# Altium schematic symbol library kmilo17pet-LT_OpAmp_LT2000.SchLib: 1710 symbols (part 24 of 75)
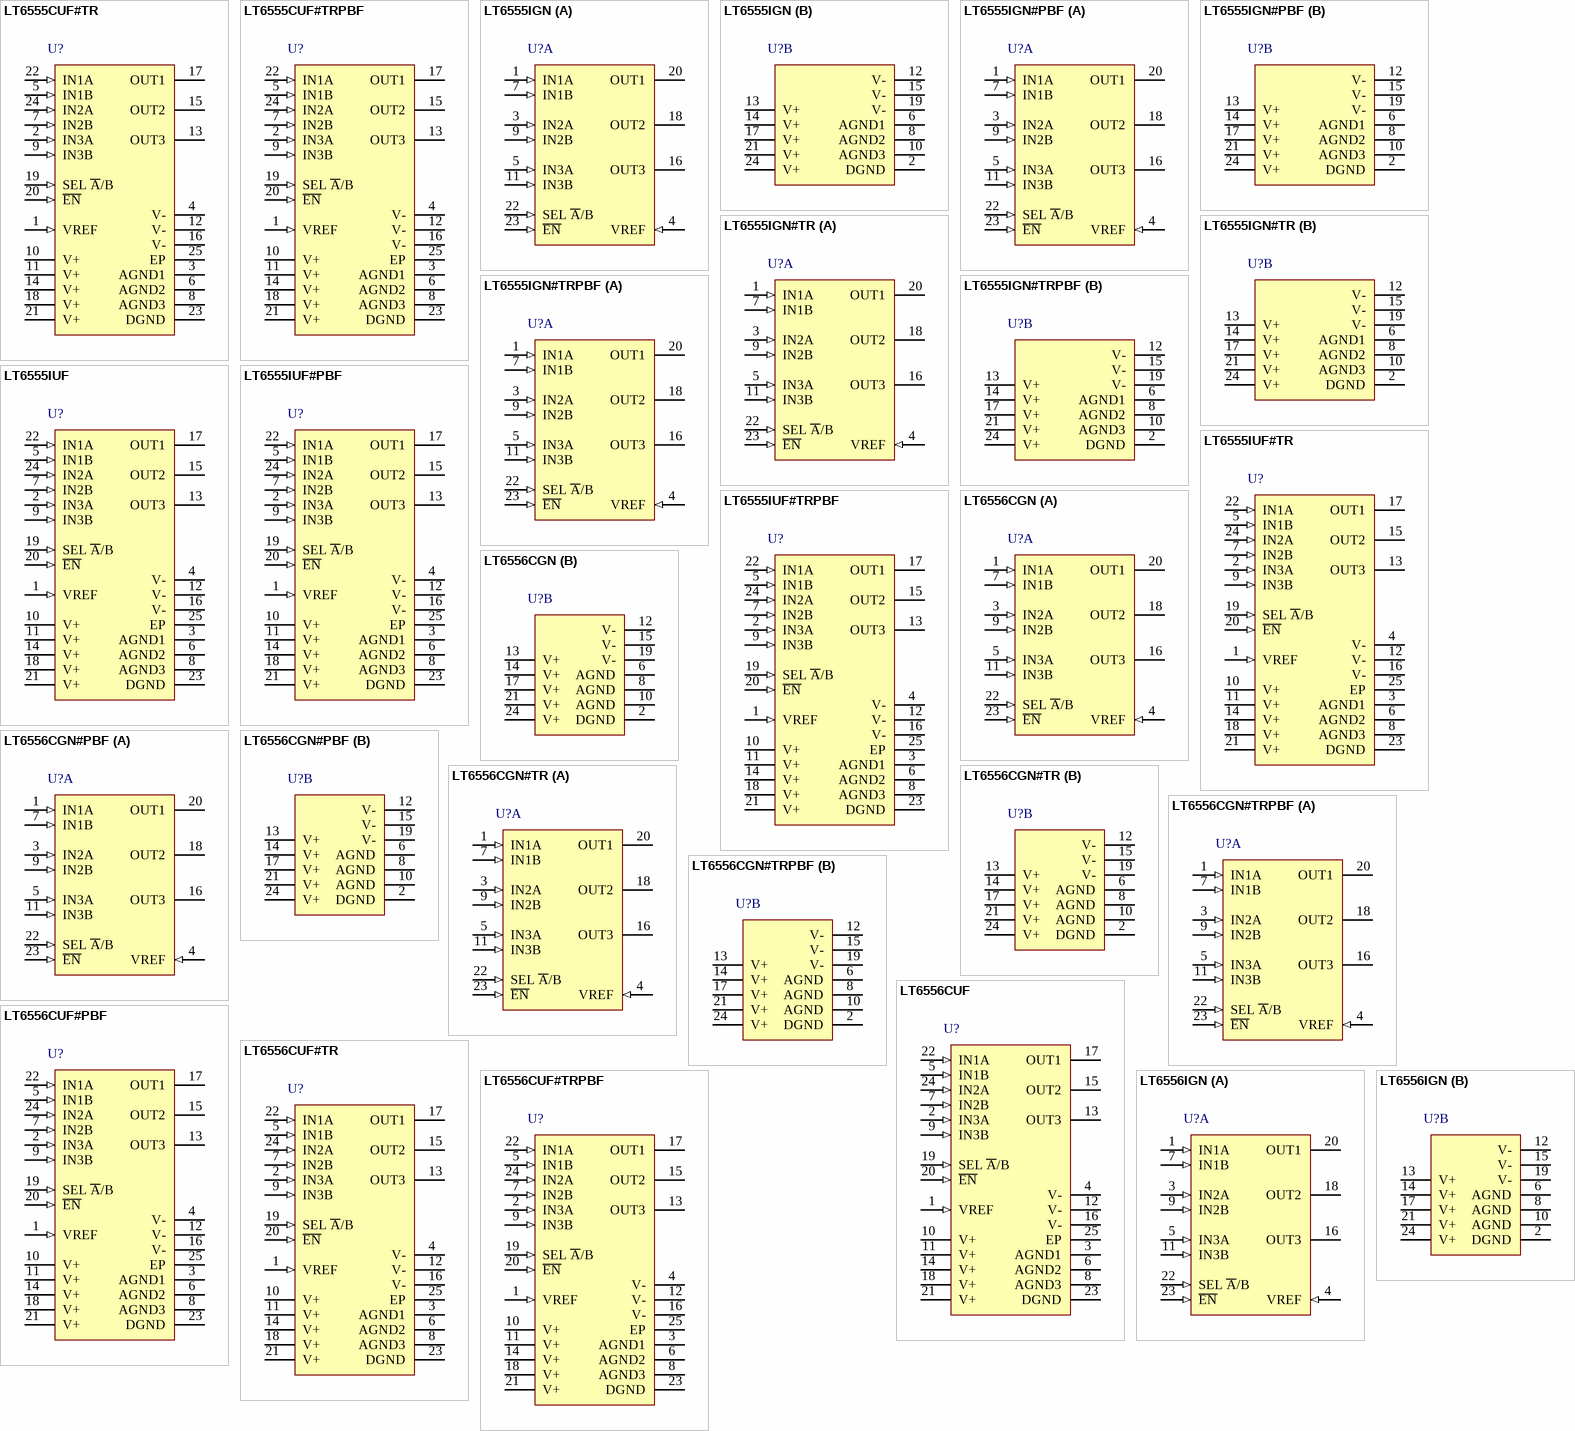
[diagram p103: symbols LT6555CUF#TR to LT6556IGN]

## LT6555CUF#TRPBF
designator U?
3 Channel, 2:1 Video Multiplexer, Av = 2, 650 MHz Typical GBW, 2200 V/us Typical SR, 4.5 to 12.6 V, 24-Pin QFN (UF24), Commercial, Pb-Free, Reel; Linear Technology Part Number: LT6555; Manufacturer: Linear Technology; PartNumber: LT6555CUF#TRPBF; Channels (#): 3; GBW (MHz) Typical: 650; Is (mA) Typical: 9; SR (V/us) Typical: 2200; Vos (mV) Typical: 5; Vs Max (V): 12.6; Vs Min (V): 4.5; PackageVersion: Rev B; PackageReference: LT-UF-24; PackageDescription: 24-Lead Plastic QFN, Body 4 x 4 mm, Pitch 0.5 mm; Supplier 1: Digi-Key; Supplier Part Number 1: LT6555CUF#TRPBF-ND; Packing: Reel; RoHS: Pb-Free; Type: VIDEO; Mounting Technology: Surface Mount; Code_JEDEC: MO-220; ComponentLink1Description: Manufacturer URL; ComponentLink1URL: http://www.linear.com/; ComponentLink2Description: Datasheet; ComponentLink2URL: http://cds.linear.com/docs/en/datasheet/6555f.pdf; ComponentLink3Description: Package Specification; ComponentLink3URL: http://cds.linear.com/docs/en/packaging/%28UF24%29%20QFN%2005-08-1697%20Rev%20B.pdf
footprint LT-UF-24_N (QFN, 24-Leads, Body 4x4mm, Pitch 0.5mm, Thermal Pad 2.45x2.45mm, IPC Medium Density)
footprint LT-UF-24_L (QFN, 24-Leads, Body 4x4mm, Pitch 0.5mm, Thermal Pad 2.45x2.45mm, IPC High Density)
footprint LT-UF-24_M (QFN, 24-Leads, Body 4x4mm, Pitch 0.5mm, Thermal Pad 2.45x2.45mm, IPC Low Density)
pins: 1 VREF (in), 2 IN3A (in), 3 AGND1 (power), 4 V- (power), 5 IN1B (in), 6 AGND2 (power), 7 IN2B (in), 8 AGND3 (power), 9 IN3B (in), 10 V+ (power), 11 V+ (power), 12 V- (power), 13 OUT3 (hiz), 14 V+ (power), 15 OUT2 (hiz), 16 V- (power), 17 OUT1 (hiz), 18 V+ (power), 19 SEL ~{A}/B (in), 20 ~{EN} (in), 21 V+ (power), 22 IN1A (in), 23 DGND (power), 24 IN2A (in), 25 EP (power)

## LT6555IGN
designator U?
3 Channel, 2:1 Video Multiplexer, Av = 2, 650 MHz Typical GBW, 2200 V/us Typical SR, 4.5 to 12.6 V, 24-Pin SOP (GN24), Industrial; Linear Technology Part Number: LT6555; Manufacturer: Linear Technology; PartNumber: LT6555IGN; Channels (#): 3; GBW (MHz) Typical: 650; Is (mA) Typical: 9; SR (V/us) Typical: 2200; Vos (mV) Typical: 5; Vs Max (V): 12.6; Vs Min (V): 4.5; PackageVersion: Rev B; PackageReference: LT-GN-24; PackageDescription: 24-Lead Plastic SSOP , Body 8.5 x 3.9 mm, Pitch 0.635 mm; Type: VIDEO; Mounting Technology: Surface Mount; ComponentLink1Description: Manufacturer URL; ComponentLink1URL: http://www.linear.com/; ComponentLink2Description: Datasheet; ComponentLink2URL: http://cds.linear.com/docs/en/datasheet/6555f.pdf; ComponentLink3Description: Package Specification; ComponentLink3URL: http://cds.linear.com/docs/en/packaging/05081641_B_GN24.pdf
footprint LT-GN-24_N (SOP, 24-Leads, Body 8.65x3.90mm, Pitch 0.635mm, , IPC Medium Density)
footprint LT-GN-24_L (SOP, 24-Leads, Body 8.65x3.90mm, Pitch 0.635mm, IPC High Density)
footprint LT-GN-24_M (SOP, 24-Leads, Body 8.65x3.90mm, Pitch 0.635mm, IPC Low Density)
part A pins: 1 IN1A (in) "Channel 1 Input A. This pin has a nominal impedance of 400k ohm and does not have any internal termination resistor.", 3 IN2A (in) "Channel 2 Input A. This pin has a nominal impedance of 400k ohm and does not have any internal termination resistor.", 4 VREF (in) "Voltage Reference for Input Clamping. This is the tap to an internal voltage divider that defines midsupply. It is normally connected to ground in dual supply, DC coupled applications.", 5 IN3A (in) "Channel 3 Input A. This pin has a nominal impedance of 400k ohm and does not have any internal termination resistor.", 7 IN1B (in) "Channel 1 Input B. This pin has a nominal impedance of 400k ohm and does not have any internal termination resistor.", 9 IN2B (in) "Channel 2 Input B. This pin has a nominal impedance of 400k ohm and does not have any internal termination resistor.", 11 IN3B (in) "Channel 3 Input B. This pin has a nominal impedance of 400k ohm and does not have any internal termination resistor.", 16 OUT3 (hiz) "Channel 3 Output. It is twice the selected channel 3 input and performs optimally with a 150ohm load (a double terminated 75ohm cable).", 18 OUT2 (hiz) "Channel 2 Output. It is twice the selected channel 2 input and performs optimally with a 150ohm load (a double terminated 75ohm cable).", 20 OUT1 (hiz) "Channel 1 Output. It is twice the selected channel 1 input and performs optimally with a 150ohm load (a double terminated 75ohm cable).", 22 SEL ~{A}/B (in) "Select Pin. This high impedance pin selects which set of inputs are sent to the output pins. When the pin is pulled low, the A inputs are selected. When the pin is pulled high, the B inputs are selected.", 23 ~{EN} (in) "Enable Control Pin. An internal pull-up resistor of 46k defines the pin’s impedance and will turn the part off if the pin is unconnected. When the pin is pulled low, the amplifiers are enabled."
part B pins: 2 DGND (power) "Digital Ground Reference for Enable Pin. This pin is normally connected to ground.", 6 AGND1 (power) "Analog Ground for the 360ohm Gain Resistor of Channel 1.", 8 AGND2 (power) "Analog Ground for the 360ohm Gain Resistor of Channel 2.", 10 AGND3 (power) "Analog Ground for the 360ohm Gain Resistor of Channel 3.", 12 V- (power) "Negative Supply Voltage. V- pins are not internally connected to each other and must all be connected externally. Proper supply bypassing is necessary for best performance. See the Applications Information section.", 13 V+ (power) "Positive Supply Voltage. V+ pins are not internally connected to each other and must all be connected externally. Proper supply bypassing is necessary for best performance. See the Applications Information section.", 14 V+ (power) "Positive Supply Voltage. V+ pins are not internally connected to each other and must all be connected externally. Proper supply bypassing is necessary for best performance. See the Applications Information section.", 15 V- (power) "Negative Supply Voltage for Channel 3 Output Stage. V- pins are not internally connected to each other and must all be connected externally. Proper supply bypassing is necessary for best performance. See the Applications (See Datasheet)", 17 V+ (power) "Positive Supply Voltage for Channels 2 and 3 Output Stages. V+ pins are not internally connected to each other and must all be connected externally. Proper supply bypassing is necessary for best performance. See the (See Datasheet)", 19 V- (power) "Negative Supply Voltage for Channels 1 and 2 Output Stages. V- pins are not internally connected to each other and must all be connected externally. Proper supply bypassing is necessary for best performance. See the (See Datasheet)", 21 V+ (power) "Positive Supply Voltage for Channel 1 Output Stage. V+ pins are not internally connected to each other and must all be connected externally. Proper supply bypassing is necessary for best performance. See the Applications (See Datasheet)", 24 V+ (power) "Positive Supply Voltage. V+ pins are not internally connected to each other and must all be connected externally. Proper supply bypassing is necessary for best performance. See the Applications Information section."

## LT6555IGN#PBF
designator U?
3 Channel, 2:1 Video Multiplexer, Av = 2, 650 MHz Typical GBW, 2200 V/us Typical SR, 4.5 to 12.6 V, 24-Pin SOP (GN24), Industrial, Pb-Free; Linear Technology Part Number: LT6555; Manufacturer: Linear Technology; PartNumber: LT6555IGN#PBF; Channels (#): 3; GBW (MHz) Typical: 650; Is (mA) Typical: 9; SR (V/us) Typical: 2200; Vos (mV) Typical: 5; Vs Max (V): 12.6; Vs Min (V): 4.5; PackageVersion: Rev B; PackageReference: LT-GN-24; PackageDescription: 24-Lead Plastic SSOP , Body 8.5 x 3.9 mm, Pitch 0.635 mm; Supplier 1: Digi-Key; Supplier Part Number 1: LT6555IGN#PBF-ND; Supplier 2: Farnell; Supplier Part Number 2: 1556495; Supplier 3: Newark; Supplier Part Number 3: 57M9496; RoHS: Pb-Free; Type: VIDEO; Mounting Technology: Surface Mount; ComponentLink1Description: Manufacturer URL; ComponentLink1URL: http://www.linear.com/; ComponentLink2Description: Datasheet; ComponentLink2URL: http://cds.linear.com/docs/en/datasheet/6555f.pdf; ComponentLink3Description: Package Specification; ComponentLink3URL: http://cds.linear.com/docs/en/packaging/05081641_B_GN24.pdf
footprint LT-GN-24_N (SOP, 24-Leads, Body 8.65x3.90mm, Pitch 0.635mm, , IPC Medium Density)
footprint LT-GN-24_L (SOP, 24-Leads, Body 8.65x3.90mm, Pitch 0.635mm, IPC High Density)
footprint LT-GN-24_M (SOP, 24-Leads, Body 8.65x3.90mm, Pitch 0.635mm, IPC Low Density)
part A pins: 1 IN1A (in) "Channel 1 Input A. This pin has a nominal impedance of 400k ohm and does not have any internal termination resistor.", 3 IN2A (in) "Channel 2 Input A. This pin has a nominal impedance of 400k ohm and does not have any internal termination resistor.", 4 VREF (in) "Voltage Reference for Input Clamping. This is the tap to an internal voltage divider that defines midsupply. It is normally connected to ground in dual supply, DC coupled applications.", 5 IN3A (in) "Channel 3 Input A. This pin has a nominal impedance of 400k ohm and does not have any internal termination resistor.", 7 IN1B (in) "Channel 1 Input B. This pin has a nominal impedance of 400k ohm and does not have any internal termination resistor.", 9 IN2B (in) "Channel 2 Input B. This pin has a nominal impedance of 400k ohm and does not have any internal termination resistor.", 11 IN3B (in) "Channel 3 Input B. This pin has a nominal impedance of 400k ohm and does not have any internal termination resistor.", 16 OUT3 (hiz) "Channel 3 Output. It is twice the selected channel 3 input and performs optimally with a 150ohm load (a double terminated 75ohm cable).", 18 OUT2 (hiz) "Channel 2 Output. It is twice the selected channel 2 input and performs optimally with a 150ohm load (a double terminated 75ohm cable).", 20 OUT1 (hiz) "Channel 1 Output. It is twice the selected channel 1 input and performs optimally with a 150ohm load (a double terminated 75ohm cable).", 22 SEL ~{A}/B (in) "Select Pin. This high impedance pin selects which set of inputs are sent to the output pins. When the pin is pulled low, the A inputs are selected. When the pin is pulled high, the B inputs are selected.", 23 ~{EN} (in) "Enable Control Pin. An internal pull-up resistor of 46k defines the pin’s impedance and will turn the part off if the pin is unconnected. When the pin is pulled low, the amplifiers are enabled."
part B pins: 2 DGND (power) "Digital Ground Reference for Enable Pin. This pin is normally connected to ground.", 6 AGND1 (power) "Analog Ground for the 360ohm Gain Resistor of Channel 1.", 8 AGND2 (power) "Analog Ground for the 360ohm Gain Resistor of Channel 2.", 10 AGND3 (power) "Analog Ground for the 360ohm Gain Resistor of Channel 3.", 12 V- (power) "Negative Supply Voltage. V- pins are not internally connected to each other and must all be connected externally. Proper supply bypassing is necessary for best performance. See the Applications Information section.", 13 V+ (power) "Positive Supply Voltage. V+ pins are not internally connected to each other and must all be connected externally. Proper supply bypassing is necessary for best performance. See the Applications Information section.", 14 V+ (power) "Positive Supply Voltage. V+ pins are not internally connected to each other and must all be connected externally. Proper supply bypassing is necessary for best performance. See the Applications Information section.", 15 V- (power) "Negative Supply Voltage for Channel 3 Output Stage. V- pins are not internally connected to each other and must all be connected externally. Proper supply bypassing is necessary for best performance. See the Applications (See Datasheet)", 17 V+ (power) "Positive Supply Voltage for Channels 2 and 3 Output Stages. V+ pins are not internally connected to each other and must all be connected externally. Proper supply bypassing is necessary for best performance. See the (See Datasheet)", 19 V- (power) "Negative Supply Voltage for Channels 1 and 2 Output Stages. V- pins are not internally connected to each other and must all be connected externally. Proper supply bypassing is necessary for best performance. See the (See Datasheet)", 21 V+ (power) "Positive Supply Voltage for Channel 1 Output Stage. V+ pins are not internally connected to each other and must all be connected externally. Proper supply bypassing is necessary for best performance. See the Applications (See Datasheet)", 24 V+ (power) "Positive Supply Voltage. V+ pins are not internally connected to each other and must all be connected externally. Proper supply bypassing is necessary for best performance. See the Applications Information section."

## LT6555IGN#TR
designator U?
3 Channel, 2:1 Video Multiplexer, Av = 2, 650 MHz Typical GBW, 2200 V/us Typical SR, 4.5 to 12.6 V, 24-Pin SOP (GN24), Industrial, Reel; Linear Technology Part Number: LT6555; Manufacturer: Linear Technology; PartNumber: LT6555IGN#TR; Channels (#): 3; GBW (MHz) Typical: 650; Is (mA) Typical: 9; SR (V/us) Typical: 2200; Vos (mV) Typical: 5; Vs Max (V): 12.6; Vs Min (V): 4.5; PackageVersion: Rev B; PackageReference: LT-GN-24; PackageDescription: 24-Lead Plastic SSOP , Body 8.5 x 3.9 mm, Pitch 0.635 mm; Packing: Reel; Type: VIDEO; Mounting Technology: Surface Mount; ComponentLink1Description: Manufacturer URL; ComponentLink1URL: http://www.linear.com/; ComponentLink2Description: Datasheet; ComponentLink2URL: http://cds.linear.com/docs/en/datasheet/6555f.pdf; ComponentLink3Description: Package Specification; ComponentLink3URL: http://cds.linear.com/docs/en/packaging/05081641_B_GN24.pdf
footprint LT-GN-24_N (SOP, 24-Leads, Body 8.65x3.90mm, Pitch 0.635mm, , IPC Medium Density)
footprint LT-GN-24_L (SOP, 24-Leads, Body 8.65x3.90mm, Pitch 0.635mm, IPC High Density)
footprint LT-GN-24_M (SOP, 24-Leads, Body 8.65x3.90mm, Pitch 0.635mm, IPC Low Density)
part A pins: 1 IN1A (in) "Channel 1 Input A. This pin has a nominal impedance of 400k ohm and does not have any internal termination resistor.", 3 IN2A (in) "Channel 2 Input A. This pin has a nominal impedance of 400k ohm and does not have any internal termination resistor.", 4 VREF (in) "Voltage Reference for Input Clamping. This is the tap to an internal voltage divider that defines midsupply. It is normally connected to ground in dual supply, DC coupled applications.", 5 IN3A (in) "Channel 3 Input A. This pin has a nominal impedance of 400k ohm and does not have any internal termination resistor.", 7 IN1B (in) "Channel 1 Input B. This pin has a nominal impedance of 400k ohm and does not have any internal termination resistor.", 9 IN2B (in) "Channel 2 Input B. This pin has a nominal impedance of 400k ohm and does not have any internal termination resistor.", 11 IN3B (in) "Channel 3 Input B. This pin has a nominal impedance of 400k ohm and does not have any internal termination resistor.", 16 OUT3 (hiz) "Channel 3 Output. It is twice the selected channel 3 input and performs optimally with a 150ohm load (a double terminated 75ohm cable).", 18 OUT2 (hiz) "Channel 2 Output. It is twice the selected channel 2 input and performs optimally with a 150ohm load (a double terminated 75ohm cable).", 20 OUT1 (hiz) "Channel 1 Output. It is twice the selected channel 1 input and performs optimally with a 150ohm load (a double terminated 75ohm cable).", 22 SEL ~{A}/B (in) "Select Pin. This high impedance pin selects which set of inputs are sent to the output pins. When the pin is pulled low, the A inputs are selected. When the pin is pulled high, the B inputs are selected.", 23 ~{EN} (in) "Enable Control Pin. An internal pull-up resistor of 46k defines the pin’s impedance and will turn the part off if the pin is unconnected. When the pin is pulled low, the amplifiers are enabled."
part B pins: 2 DGND (power) "Digital Ground Reference for Enable Pin. This pin is normally connected to ground.", 6 AGND1 (power) "Analog Ground for the 360ohm Gain Resistor of Channel 1.", 8 AGND2 (power) "Analog Ground for the 360ohm Gain Resistor of Channel 2.", 10 AGND3 (power) "Analog Ground for the 360ohm Gain Resistor of Channel 3.", 12 V- (power) "Negative Supply Voltage. V- pins are not internally connected to each other and must all be connected externally. Proper supply bypassing is necessary for best performance. See the Applications Information section.", 13 V+ (power) "Positive Supply Voltage. V+ pins are not internally connected to each other and must all be connected externally. Proper supply bypassing is necessary for best performance. See the Applications Information section.", 14 V+ (power) "Positive Supply Voltage. V+ pins are not internally connected to each other and must all be connected externally. Proper supply bypassing is necessary for best performance. See the Applications Information section.", 15 V- (power) "Negative Supply Voltage for Channel 3 Output Stage. V- pins are not internally connected to each other and must all be connected externally. Proper supply bypassing is necessary for best performance. See the Applications (See Datasheet)", 17 V+ (power) "Positive Supply Voltage for Channels 2 and 3 Output Stages. V+ pins are not internally connected to each other and must all be connected externally. Proper supply bypassing is necessary for best performance. See the (See Datasheet)", 19 V- (power) "Negative Supply Voltage for Channels 1 and 2 Output Stages. V- pins are not internally connected to each other and must all be connected externally. Proper supply bypassing is necessary for best performance. See the (See Datasheet)", 21 V+ (power) "Positive Supply Voltage for Channel 1 Output Stage. V+ pins are not internally connected to each other and must all be connected externally. Proper supply bypassing is necessary for best performance. See the Applications (See Datasheet)", 24 V+ (power) "Positive Supply Voltage. V+ pins are not internally connected to each other and must all be connected externally. Proper supply bypassing is necessary for best performance. See the Applications Information section."

## LT6555IGN#TRPBF
designator U?
3 Channel, 2:1 Video Multiplexer, Av = 2, 650 MHz Typical GBW, 2200 V/us Typical SR, 4.5 to 12.6 V, 24-Pin SOP (GN24), Industrial, Pb-Free, Reel; Linear Technology Part Number: LT6555; Manufacturer: Linear Technology; PartNumber: LT6555IGN#TRPBF; Channels (#): 3; GBW (MHz) Typical: 650; Is (mA) Typical: 9; SR (V/us) Typical: 2200; Vos (mV) Typical: 5; Vs Max (V): 12.6; Vs Min (V): 4.5; PackageVersion: Rev B; PackageReference: LT-GN-24; PackageDescription: 24-Lead Plastic SSOP , Body 8.5 x 3.9 mm, Pitch 0.635 mm; Supplier 1: Digi-Key; Supplier Part Number 1: LT6555IGN#TRPBF-ND; Packing: Reel; RoHS: Pb-Free; Type: VIDEO; Mounting Technology: Surface Mount; ComponentLink1Description: Manufacturer URL; ComponentLink1URL: http://www.linear.com/; ComponentLink2Description: Datasheet; ComponentLink2URL: http://cds.linear.com/docs/en/datasheet/6555f.pdf; ComponentLink3Description: Package Specification; ComponentLink3URL: http://cds.linear.com/docs/en/packaging/05081641_B_GN24.pdf
footprint LT-GN-24_N (SOP, 24-Leads, Body 8.65x3.90mm, Pitch 0.635mm, , IPC Medium Density)
footprint LT-GN-24_L (SOP, 24-Leads, Body 8.65x3.90mm, Pitch 0.635mm, IPC High Density)
footprint LT-GN-24_M (SOP, 24-Leads, Body 8.65x3.90mm, Pitch 0.635mm, IPC Low Density)
part A pins: 1 IN1A (in) "Channel 1 Input A. This pin has a nominal impedance of 400k ohm and does not have any internal termination resistor.", 3 IN2A (in) "Channel 2 Input A. This pin has a nominal impedance of 400k ohm and does not have any internal termination resistor.", 4 VREF (in) "Voltage Reference for Input Clamping. This is the tap to an internal voltage divider that defines midsupply. It is normally connected to ground in dual supply, DC coupled applications.", 5 IN3A (in) "Channel 3 Input A. This pin has a nominal impedance of 400k ohm and does not have any internal termination resistor.", 7 IN1B (in) "Channel 1 Input B. This pin has a nominal impedance of 400k ohm and does not have any internal termination resistor.", 9 IN2B (in) "Channel 2 Input B. This pin has a nominal impedance of 400k ohm and does not have any internal termination resistor.", 11 IN3B (in) "Channel 3 Input B. This pin has a nominal impedance of 400k ohm and does not have any internal termination resistor.", 16 OUT3 (hiz) "Channel 3 Output. It is twice the selected channel 3 input and performs optimally with a 150ohm load (a double terminated 75ohm cable).", 18 OUT2 (hiz) "Channel 2 Output. It is twice the selected channel 2 input and performs optimally with a 150ohm load (a double terminated 75ohm cable).", 20 OUT1 (hiz) "Channel 1 Output. It is twice the selected channel 1 input and performs optimally with a 150ohm load (a double terminated 75ohm cable).", 22 SEL ~{A}/B (in) "Select Pin. This high impedance pin selects which set of inputs are sent to the output pins. When the pin is pulled low, the A inputs are selected. When the pin is pulled high, the B inputs are selected.", 23 ~{EN} (in) "Enable Control Pin. An internal pull-up resistor of 46k defines the pin’s impedance and will turn the part off if the pin is unconnected. When the pin is pulled low, the amplifiers are enabled."
part B pins: 2 DGND (power) "Digital Ground Reference for Enable Pin. This pin is normally connected to ground.", 6 AGND1 (power) "Analog Ground for the 360ohm Gain Resistor of Channel 1.", 8 AGND2 (power) "Analog Ground for the 360ohm Gain Resistor of Channel 2.", 10 AGND3 (power) "Analog Ground for the 360ohm Gain Resistor of Channel 3.", 12 V- (power) "Negative Supply Voltage. V- pins are not internally connected to each other and must all be connected externally. Proper supply bypassing is necessary for best performance. See the Applications Information section.", 13 V+ (power) "Positive Supply Voltage. V+ pins are not internally connected to each other and must all be connected externally. Proper supply bypassing is necessary for best performance. See the Applications Information section.", 14 V+ (power) "Positive Supply Voltage. V+ pins are not internally connected to each other and must all be connected externally. Proper supply bypassing is necessary for best performance. See the Applications Information section.", 15 V- (power) "Negative Supply Voltage for Channel 3 Output Stage. V- pins are not internally connected to each other and must all be connected externally. Proper supply bypassing is necessary for best performance. See the Applications (See Datasheet)", 17 V+ (power) "Positive Supply Voltage for Channels 2 and 3 Output Stages. V+ pins are not internally connected to each other and must all be connected externally. Proper supply bypassing is necessary for best performance. See the (See Datasheet)", 19 V- (power) "Negative Supply Voltage for Channels 1 and 2 Output Stages. V- pins are not internally connected to each other and must all be connected externally. Proper supply bypassing is necessary for best performance. See the (See Datasheet)", 21 V+ (power) "Positive Supply Voltage for Channel 1 Output Stage. V+ pins are not internally connected to each other and must all be connected externally. Proper supply bypassing is necessary for best performance. See the Applications (See Datasheet)", 24 V+ (power) "Positive Supply Voltage. V+ pins are not internally connected to each other and must all be connected externally. Proper supply bypassing is necessary for best performance. See the Applications Information section."

## LT6555IUF
designator U?
3 Channel, 2:1 Video Multiplexer, Av = 2, 650 MHz Typical GBW, 2200 V/us Typical SR, 4.5 to 12.6 V, 24-Pin QFN (UF24), Industrial; Linear Technology Part Number: LT6555; Manufacturer: Linear Technology; PartNumber: LT6555IUF; Channels (#): 3; GBW (MHz) Typical: 650; Is (mA) Typical: 9; SR (V/us) Typical: 2200; Vos (mV) Typical: 5; Vs Max (V): 12.6; Vs Min (V): 4.5; PackageVersion: Rev B; PackageReference: LT-UF-24; PackageDescription: 24-Lead Plastic QFN, Body 4 x 4 mm, Pitch 0.5 mm; Type: VIDEO; Mounting Technology: Surface Mount; Code_JEDEC: MO-220; ComponentLink1Description: Manufacturer URL; ComponentLink1URL: http://www.linear.com/; ComponentLink2Description: Datasheet; ComponentLink2URL: http://cds.linear.com/docs/en/datasheet/6555f.pdf; ComponentLink3Description: Package Specification; ComponentLink3URL: http://cds.linear.com/docs/en/packaging/%28UF24%29%20QFN%2005-08-1697%20Rev%20B.pdf
footprint LT-UF-24_N (QFN, 24-Leads, Body 4x4mm, Pitch 0.5mm, Thermal Pad 2.45x2.45mm, IPC Medium Density)
footprint LT-UF-24_L (QFN, 24-Leads, Body 4x4mm, Pitch 0.5mm, Thermal Pad 2.45x2.45mm, IPC High Density)
footprint LT-UF-24_M (QFN, 24-Leads, Body 4x4mm, Pitch 0.5mm, Thermal Pad 2.45x2.45mm, IPC Low Density)
pins: 1 VREF (in), 2 IN3A (in), 3 AGND1 (power), 4 V- (power), 5 IN1B (in), 6 AGND2 (power), 7 IN2B (in), 8 AGND3 (power), 9 IN3B (in), 10 V+ (power), 11 V+ (power), 12 V- (power), 13 OUT3 (hiz), 14 V+ (power), 15 OUT2 (hiz), 16 V- (power), 17 OUT1 (hiz), 18 V+ (power), 19 SEL ~{A}/B (in), 20 ~{EN} (in), 21 V+ (power), 22 IN1A (in), 23 DGND (power), 24 IN2A (in), 25 EP (power)

## LT6555IUF#PBF
designator U?
3 Channel, 2:1 Video Multiplexer, Av = 2, 650 MHz Typical GBW, 2200 V/us Typical SR, 4.5 to 12.6 V, 24-Pin QFN (UF24), Industrial, Pb-Free; Linear Technology Part Number: LT6555; Manufacturer: Linear Technology; PartNumber: LT6555IUF#PBF; Channels (#): 3; GBW (MHz) Typical: 650; Is (mA) Typical: 9; SR (V/us) Typical: 2200; Vos (mV) Typical: 5; Vs Max (V): 12.6; Vs Min (V): 4.5; PackageVersion: Rev B; PackageReference: LT-UF-24; PackageDescription: 24-Lead Plastic QFN, Body 4 x 4 mm, Pitch 0.5 mm; Supplier 1: Digi-Key; Supplier Part Number 1: LT6555IUF#PBF-ND; Supplier 2: Farnell; Supplier Part Number 2: 2295513; RoHS: Pb-Free; Type: VIDEO; Mounting Technology: Surface Mount; Code_JEDEC: MO-220; ComponentLink1Description: Manufacturer URL; ComponentLink1URL: http://www.linear.com/; ComponentLink2Description: Datasheet; ComponentLink2URL: http://cds.linear.com/docs/en/datasheet/6555f.pdf; ComponentLink3Description: Package Specification; ComponentLink3URL: http://cds.linear.com/docs/en/packaging/%28UF24%29%20QFN%2005-08-1697%20Rev%20B.pdf
footprint LT-UF-24_N (QFN, 24-Leads, Body 4x4mm, Pitch 0.5mm, Thermal Pad 2.45x2.45mm, IPC Medium Density)
footprint LT-UF-24_L (QFN, 24-Leads, Body 4x4mm, Pitch 0.5mm, Thermal Pad 2.45x2.45mm, IPC High Density)
footprint LT-UF-24_M (QFN, 24-Leads, Body 4x4mm, Pitch 0.5mm, Thermal Pad 2.45x2.45mm, IPC Low Density)
pins: 1 VREF (in), 2 IN3A (in), 3 AGND1 (power), 4 V- (power), 5 IN1B (in), 6 AGND2 (power), 7 IN2B (in), 8 AGND3 (power), 9 IN3B (in), 10 V+ (power), 11 V+ (power), 12 V- (power), 13 OUT3 (hiz), 14 V+ (power), 15 OUT2 (hiz), 16 V- (power), 17 OUT1 (hiz), 18 V+ (power), 19 SEL ~{A}/B (in), 20 ~{EN} (in), 21 V+ (power), 22 IN1A (in), 23 DGND (power), 24 IN2A (in), 25 EP (power)

## LT6555IUF#TR
designator U?
3 Channel, 2:1 Video Multiplexer, Av = 2, 650 MHz Typical GBW, 2200 V/us Typical SR, 4.5 to 12.6 V, 24-Pin QFN (UF24), Industrial, Reel; Linear Technology Part Number: LT6555; Manufacturer: Linear Technology; PartNumber: LT6555IUF#TR; Channels (#): 3; GBW (MHz) Typical: 650; Is (mA) Typical: 9; SR (V/us) Typical: 2200; Vos (mV) Typical: 5; Vs Max (V): 12.6; Vs Min (V): 4.5; PackageVersion: Rev B; PackageReference: LT-UF-24; PackageDescription: 24-Lead Plastic QFN, Body 4 x 4 mm, Pitch 0.5 mm; Packing: Reel; Type: VIDEO; Mounting Technology: Surface Mount; Code_JEDEC: MO-220; ComponentLink1Description: Manufacturer URL; ComponentLink1URL: http://www.linear.com/; ComponentLink2Description: Datasheet; ComponentLink2URL: http://cds.linear.com/docs/en/datasheet/6555f.pdf; ComponentLink3Description: Package Specification; ComponentLink3URL: http://cds.linear.com/docs/en/packaging/%28UF24%29%20QFN%2005-08-1697%20Rev%20B.pdf
footprint LT-UF-24_N (QFN, 24-Leads, Body 4x4mm, Pitch 0.5mm, Thermal Pad 2.45x2.45mm, IPC Medium Density)
footprint LT-UF-24_L (QFN, 24-Leads, Body 4x4mm, Pitch 0.5mm, Thermal Pad 2.45x2.45mm, IPC High Density)
footprint LT-UF-24_M (QFN, 24-Leads, Body 4x4mm, Pitch 0.5mm, Thermal Pad 2.45x2.45mm, IPC Low Density)
pins: 1 VREF (in), 2 IN3A (in), 3 AGND1 (power), 4 V- (power), 5 IN1B (in), 6 AGND2 (power), 7 IN2B (in), 8 AGND3 (power), 9 IN3B (in), 10 V+ (power), 11 V+ (power), 12 V- (power), 13 OUT3 (hiz), 14 V+ (power), 15 OUT2 (hiz), 16 V- (power), 17 OUT1 (hiz), 18 V+ (power), 19 SEL ~{A}/B (in), 20 ~{EN} (in), 21 V+ (power), 22 IN1A (in), 23 DGND (power), 24 IN2A (in), 25 EP (power)

## LT6555IUF#TRPBF
designator U?
3 Channel, 2:1 Video Multiplexer, Av = 2, 650 MHz Typical GBW, 2200 V/us Typical SR, 4.5 to 12.6 V, 24-Pin QFN (UF24), Industrial, Pb-Free, Reel; Linear Technology Part Number: LT6555; Manufacturer: Linear Technology; PartNumber: LT6555IUF#TRPBF; Channels (#): 3; GBW (MHz) Typical: 650; Is (mA) Typical: 9; SR (V/us) Typical: 2200; Vos (mV) Typical: 5; Vs Max (V): 12.6; Vs Min (V): 4.5; PackageVersion: Rev B; PackageReference: LT-UF-24; PackageDescription: 24-Lead Plastic QFN, Body 4 x 4 mm, Pitch 0.5 mm; Supplier 1: Digi-Key; Supplier Part Number 1: LT6555IUF#TRPBF-ND; Packing: Reel; RoHS: Pb-Free; Type: VIDEO; Mounting Technology: Surface Mount; Code_JEDEC: MO-220; ComponentLink1Description: Manufacturer URL; ComponentLink1URL: http://www.linear.com/; ComponentLink2Description: Datasheet; ComponentLink2URL: http://cds.linear.com/docs/en/datasheet/6555f.pdf; ComponentLink3Description: Package Specification; ComponentLink3URL: http://cds.linear.com/docs/en/packaging/%28UF24%29%20QFN%2005-08-1697%20Rev%20B.pdf
footprint LT-UF-24_N (QFN, 24-Leads, Body 4x4mm, Pitch 0.5mm, Thermal Pad 2.45x2.45mm, IPC Medium Density)
footprint LT-UF-24_L (QFN, 24-Leads, Body 4x4mm, Pitch 0.5mm, Thermal Pad 2.45x2.45mm, IPC High Density)
footprint LT-UF-24_M (QFN, 24-Leads, Body 4x4mm, Pitch 0.5mm, Thermal Pad 2.45x2.45mm, IPC Low Density)
pins: 1 VREF (in), 2 IN3A (in), 3 AGND1 (power), 4 V- (power), 5 IN1B (in), 6 AGND2 (power), 7 IN2B (in), 8 AGND3 (power), 9 IN3B (in), 10 V+ (power), 11 V+ (power), 12 V- (power), 13 OUT3 (hiz), 14 V+ (power), 15 OUT2 (hiz), 16 V- (power), 17 OUT1 (hiz), 18 V+ (power), 19 SEL ~{A}/B (in), 20 ~{EN} (in), 21 V+ (power), 22 IN1A (in), 23 DGND (power), 24 IN2A (in), 25 EP (power)

## LT6556CGN
designator U?
3 Channel, 2:1 Video Multiplexer, Av = 1, 750 MHz Typical GBW, 2100 V/us Typical SR, 4.5 to 12.6 V, 24-Pin SOP (GN24), Commercial; Linear Technology Part Number: LT6556; Manufacturer: Linear Technology; PartNumber: LT6556CGN; Channels (#): 3; GBW (MHz) Typical: 750; Is (mA) Typical: 9.5; SR (V/us) Typical: 2100; Vos (mV) Typical: 18; Vs Max (V): 12.6; Vs Min (V): 4.5; PackageVersion: Rev B; PackageReference: LT-GN-24; PackageDescription: 24-Lead Plastic SSOP , Body 8.5 x 3.9 mm, Pitch 0.635 mm; Type: VIDEO; Mounting Technology: Surface Mount; ComponentLink1Description: Manufacturer URL; ComponentLink1URL: http://www.linear.com/; ComponentLink2Description: Datasheet; ComponentLink2URL: http://cds.linear.com/docs/en/datasheet/6556.indd.pdf; ComponentLink3Description: Package Specification; ComponentLink3URL: http://cds.linear.com/docs/en/packaging/05081641_B_GN24.pdf
footprint LT-GN-24_N (SOP, 24-Leads, Body 8.65x3.90mm, Pitch 0.635mm, , IPC Medium Density)
footprint LT-GN-24_L (SOP, 24-Leads, Body 8.65x3.90mm, Pitch 0.635mm, IPC High Density)
footprint LT-GN-24_M (SOP, 24-Leads, Body 8.65x3.90mm, Pitch 0.635mm, IPC Low Density)
part A pins: 1 IN1A (in) "Channel 1 Input A. This pin has a nominal impedance of 500k ohm and does not have any internal termination resistor.", 3 IN2A (in) "Channel 2 Input A. This pin has a nominal impedance of 500k ohm and does not have any internal termination resistor.", 4 VREF (in) "Voltage Reference for Input Clamping. This is the tap to an internal voltage divider that defines midsupply. It is normally connected to ground in dual supply, DC coupled applications.", 5 IN3A (in) "Channel 3 Input A. This pin has a nominal impedance of 500k ohm and does not have any internal termination resistor.", 7 IN1B (in) "Channel 1 Input B. This pin has a nominal impedance of 500k ohm and does not have any internal termination resistor.", 9 IN2B (in) "Channel 2 Input B. This pin has a nominal impedance of 500k ohm and does not have any internal termination resistor.", 11 IN3B (in) "Channel 3 Input B. This pin has a nominal impedance of 500k ohm and does not have any internal termination resistor.", 16 OUT3 (hiz) "Channel 3 Output. It is the buffered output of the selected Channel 3 input.", 18 OUT2 (hiz) "Channel 2 Output. It is the buffered output of the selected Channel 2 input.", 20 OUT1 (hiz) "Channel 1 Output. It is the buffered output of the selected Channel 1 input.", 22 SEL ~{A}/B (in) "Select Pin. This high impedance pin selects which set of inputs are sent to the output pins. When the pin is pulled low, the A inputs are selected. When the pin is pulled high, the B inputs are selected.", 23 ~{EN} (in) "Enable Control Pin. An internal pull-up resistor of 46k defi nes the pin’s impedance and will turn the part off if the pin is unconnected. When the pin is pulled low, the amplifi ers are enabled."
part B pins: 2 DGND (power) "Digital Ground Reference for Enable Pin. This pin is normally connected to ground.", 6 AGND (power) "Analog Ground for Isolation between IN3A and IN1B. AGND pins have ESD protection and should not be connected to potentials outside the power supply range", 8 AGND (power) "Analog Ground for Isolation between IN1B and IN2B. AGND pins have ESD protection and should not be connected to potentials outside the power supply range.", 10 AGND (power) "Analog Ground for Isolation between IN2B and IN3B. AGND pins have ESD protection and should not be connected to potentials outside the power supply range.", 12 V- (power) "Negative Supply Voltage. V- pins are not internally connected to each other and must all be connected externally. Proper supply bypassing is necessary for best performance. See the Applications Information section.", 13 V+ (power) "Positive Supply Voltage. V+ pins are not internally connected to each other and must all be connected externally. Proper supply bypassing is necessary for best performance. See the Applications Information section.", 14 V+ (power) "Positive Supply Voltage. V+ pins are not internally connected to each other and must all be connected externally. Proper supply bypassing is necessary for best performance. See the Applications Information section.", 15 V- (power) "Negative Supply Voltage for Channel 3 Output Stage. V- pins are not internally connected to each other and must all be connected externally. Proper supply bypassing is necessary for best performance. See the Applications (See Datasheet)", 17 V+ (power) "Positive Supply Voltage for Channels 2 and 3 Output Stages. V+ pins are not internally connected to each other and must all be connected externally. Proper supply bypassing is necessary for best performance. See the (See Datasheet)", 19 V- (power) "Negative Supply Voltage for Channels 1 and 2 Output Stages. V- pins are not internally connected to each other and must all be connected externally. Proper supply bypassing is necessary for best performance. See the (See Datasheet)", 21 V+ (power) "Positive Supply Voltage for Channel 1 Output Stage. V+ pins are not internally connected to each other and must all be connected externally. Proper supply bypassing is necessary for best performance. See the Applications (See Datasheet)", 24 V+ (power) "Positive Supply Voltage. V+ pins are not internally connected to each other and must all be connected externally. Proper supply bypassing is necessary for best performance. See the Applications Information section."

## LT6556CGN#PBF
designator U?
3 Channel, 2:1 Video Multiplexer, Av = 1, 750 MHz Typical GBW, 2100 V/us Typical SR, 4.5 to 12.6 V, 24-Pin SOP (GN24), Commercial, Pb-Free; Linear Technology Part Number: LT6556; Manufacturer: Linear Technology; PartNumber: LT6556CGN#PBF; Channels (#): 3; GBW (MHz) Typical: 750; Is (mA) Typical: 9.5; SR (V/us) Typical: 2100; Vos (mV) Typical: 18; Vs Max (V): 12.6; Vs Min (V): 4.5; PackageVersion: Rev B; PackageReference: LT-GN-24; PackageDescription: 24-Lead Plastic SSOP , Body 8.5 x 3.9 mm, Pitch 0.635 mm; Supplier 1: Digi-Key; Supplier Part Number 1: LT6556CGN#PBF-ND; Supplier 2: Farnell; Supplier Part Number 2: 1330774; Supplier 3: Newark; Supplier Part Number 3: 57M9504; RoHS: Pb-Free; Type: VIDEO; Mounting Technology: Surface Mount; ComponentLink1Description: Manufacturer URL; ComponentLink1URL: http://www.linear.com/; ComponentLink2Description: Datasheet; ComponentLink2URL: http://cds.linear.com/docs/en/datasheet/6556.indd.pdf; ComponentLink3Description: Package Specification; ComponentLink3URL: http://cds.linear.com/docs/en/packaging/05081641_B_GN24.pdf
footprint LT-GN-24_N (SOP, 24-Leads, Body 8.65x3.90mm, Pitch 0.635mm, , IPC Medium Density)
footprint LT-GN-24_L (SOP, 24-Leads, Body 8.65x3.90mm, Pitch 0.635mm, IPC High Density)
footprint LT-GN-24_M (SOP, 24-Leads, Body 8.65x3.90mm, Pitch 0.635mm, IPC Low Density)
part A pins: 1 IN1A (in) "Channel 1 Input A. This pin has a nominal impedance of 500k ohm and does not have any internal termination resistor.", 3 IN2A (in) "Channel 2 Input A. This pin has a nominal impedance of 500k ohm and does not have any internal termination resistor.", 4 VREF (in) "Voltage Reference for Input Clamping. This is the tap to an internal voltage divider that defines midsupply. It is normally connected to ground in dual supply, DC coupled applications.", 5 IN3A (in) "Channel 3 Input A. This pin has a nominal impedance of 500k ohm and does not have any internal termination resistor.", 7 IN1B (in) "Channel 1 Input B. This pin has a nominal impedance of 500k ohm and does not have any internal termination resistor.", 9 IN2B (in) "Channel 2 Input B. This pin has a nominal impedance of 500k ohm and does not have any internal termination resistor.", 11 IN3B (in) "Channel 3 Input B. This pin has a nominal impedance of 500k ohm and does not have any internal termination resistor.", 16 OUT3 (hiz) "Channel 3 Output. It is the buffered output of the selected Channel 3 input.", 18 OUT2 (hiz) "Channel 2 Output. It is the buffered output of the selected Channel 2 input.", 20 OUT1 (hiz) "Channel 1 Output. It is the buffered output of the selected Channel 1 input.", 22 SEL ~{A}/B (in) "Select Pin. This high impedance pin selects which set of inputs are sent to the output pins. When the pin is pulled low, the A inputs are selected. When the pin is pulled high, the B inputs are selected.", 23 ~{EN} (in) "Enable Control Pin. An internal pull-up resistor of 46k defi nes the pin’s impedance and will turn the part off if the pin is unconnected. When the pin is pulled low, the amplifi ers are enabled."
part B pins: 2 DGND (power) "Digital Ground Reference for Enable Pin. This pin is normally connected to ground.", 6 AGND (power) "Analog Ground for Isolation between IN3A and IN1B. AGND pins have ESD protection and should not be connected to potentials outside the power supply range", 8 AGND (power) "Analog Ground for Isolation between IN1B and IN2B. AGND pins have ESD protection and should not be connected to potentials outside the power supply range.", 10 AGND (power) "Analog Ground for Isolation between IN2B and IN3B. AGND pins have ESD protection and should not be connected to potentials outside the power supply range.", 12 V- (power) "Negative Supply Voltage. V- pins are not internally connected to each other and must all be connected externally. Proper supply bypassing is necessary for best performance. See the Applications Information section.", 13 V+ (power) "Positive Supply Voltage. V+ pins are not internally connected to each other and must all be connected externally. Proper supply bypassing is necessary for best performance. See the Applications Information section.", 14 V+ (power) "Positive Supply Voltage. V+ pins are not internally connected to each other and must all be connected externally. Proper supply bypassing is necessary for best performance. See the Applications Information section.", 15 V- (power) "Negative Supply Voltage for Channel 3 Output Stage. V- pins are not internally connected to each other and must all be connected externally. Proper supply bypassing is necessary for best performance. See the Applications (See Datasheet)", 17 V+ (power) "Positive Supply Voltage for Channels 2 and 3 Output Stages. V+ pins are not internally connected to each other and must all be connected externally. Proper supply bypassing is necessary for best performance. See the (See Datasheet)", 19 V- (power) "Negative Supply Voltage for Channels 1 and 2 Output Stages. V- pins are not internally connected to each other and must all be connected externally. Proper supply bypassing is necessary for best performance. See the (See Datasheet)", 21 V+ (power) "Positive Supply Voltage for Channel 1 Output Stage. V+ pins are not internally connected to each other and must all be connected externally. Proper supply bypassing is necessary for best performance. See the Applications (See Datasheet)", 24 V+ (power) "Positive Supply Voltage. V+ pins are not internally connected to each other and must all be connected externally. Proper supply bypassing is necessary for best performance. See the Applications Information section."

## LT6556CGN#TR
designator U?
3 Channel, 2:1 Video Multiplexer, Av = 1, 750 MHz Typical GBW, 2100 V/us Typical SR, 4.5 to 12.6 V, 24-Pin SOP (GN24), Commercial, Reel; Linear Technology Part Number: LT6556; Manufacturer: Linear Technology; PartNumber: LT6556CGN#TR; Channels (#): 3; GBW (MHz) Typical: 750; Is (mA) Typical: 9.5; SR (V/us) Typical: 2100; Vos (mV) Typical: 18; Vs Max (V): 12.6; Vs Min (V): 4.5; PackageVersion: Rev B; PackageReference: LT-GN-24; PackageDescription: 24-Lead Plastic SSOP , Body 8.5 x 3.9 mm, Pitch 0.635 mm; Packing: Reel; Type: VIDEO; Mounting Technology: Surface Mount; ComponentLink1Description: Manufacturer URL; ComponentLink1URL: http://www.linear.com/; ComponentLink2Description: Datasheet; ComponentLink2URL: http://cds.linear.com/docs/en/datasheet/6556.indd.pdf; ComponentLink3Description: Package Specification; ComponentLink3URL: http://cds.linear.com/docs/en/packaging/05081641_B_GN24.pdf
footprint LT-GN-24_N (SOP, 24-Leads, Body 8.65x3.90mm, Pitch 0.635mm, , IPC Medium Density)
footprint LT-GN-24_L (SOP, 24-Leads, Body 8.65x3.90mm, Pitch 0.635mm, IPC High Density)
footprint LT-GN-24_M (SOP, 24-Leads, Body 8.65x3.90mm, Pitch 0.635mm, IPC Low Density)
part A pins: 1 IN1A (in) "Channel 1 Input A. This pin has a nominal impedance of 500k ohm and does not have any internal termination resistor.", 3 IN2A (in) "Channel 2 Input A. This pin has a nominal impedance of 500k ohm and does not have any internal termination resistor.", 4 VREF (in) "Voltage Reference for Input Clamping. This is the tap to an internal voltage divider that defines midsupply. It is normally connected to ground in dual supply, DC coupled applications.", 5 IN3A (in) "Channel 3 Input A. This pin has a nominal impedance of 500k ohm and does not have any internal termination resistor.", 7 IN1B (in) "Channel 1 Input B. This pin has a nominal impedance of 500k ohm and does not have any internal termination resistor.", 9 IN2B (in) "Channel 2 Input B. This pin has a nominal impedance of 500k ohm and does not have any internal termination resistor.", 11 IN3B (in) "Channel 3 Input B. This pin has a nominal impedance of 500k ohm and does not have any internal termination resistor.", 16 OUT3 (hiz) "Channel 3 Output. It is the buffered output of the selected Channel 3 input.", 18 OUT2 (hiz) "Channel 2 Output. It is the buffered output of the selected Channel 2 input.", 20 OUT1 (hiz) "Channel 1 Output. It is the buffered output of the selected Channel 1 input.", 22 SEL ~{A}/B (in) "Select Pin. This high impedance pin selects which set of inputs are sent to the output pins. When the pin is pulled low, the A inputs are selected. When the pin is pulled high, the B inputs are selected.", 23 ~{EN} (in) "Enable Control Pin. An internal pull-up resistor of 46k defi nes the pin’s impedance and will turn the part off if the pin is unconnected. When the pin is pulled low, the amplifi ers are enabled."
part B pins: 2 DGND (power) "Digital Ground Reference for Enable Pin. This pin is normally connected to ground.", 6 AGND (power) "Analog Ground for Isolation between IN3A and IN1B. AGND pins have ESD protection and should not be connected to potentials outside the power supply range", 8 AGND (power) "Analog Ground for Isolation between IN1B and IN2B. AGND pins have ESD protection and should not be connected to potentials outside the power supply range.", 10 AGND (power) "Analog Ground for Isolation between IN2B and IN3B. AGND pins have ESD protection and should not be connected to potentials outside the power supply range.", 12 V- (power) "Negative Supply Voltage. V- pins are not internally connected to each other and must all be connected externally. Proper supply bypassing is necessary for best performance. See the Applications Information section.", 13 V+ (power) "Positive Supply Voltage. V+ pins are not internally connected to each other and must all be connected externally. Proper supply bypassing is necessary for best performance. See the Applications Information section.", 14 V+ (power) "Positive Supply Voltage. V+ pins are not internally connected to each other and must all be connected externally. Proper supply bypassing is necessary for best performance. See the Applications Information section.", 15 V- (power) "Negative Supply Voltage for Channel 3 Output Stage. V- pins are not internally connected to each other and must all be connected externally. Proper supply bypassing is necessary for best performance. See the Applications (See Datasheet)", 17 V+ (power) "Positive Supply Voltage for Channels 2 and 3 Output Stages. V+ pins are not internally connected to each other and must all be connected externally. Proper supply bypassing is necessary for best performance. See the (See Datasheet)", 19 V- (power) "Negative Supply Voltage for Channels 1 and 2 Output Stages. V- pins are not internally connected to each other and must all be connected externally. Proper supply bypassing is necessary for best performance. See the (See Datasheet)", 21 V+ (power) "Positive Supply Voltage for Channel 1 Output Stage. V+ pins are not internally connected to each other and must all be connected externally. Proper supply bypassing is necessary for best performance. See the Applications (See Datasheet)", 24 V+ (power) "Positive Supply Voltage. V+ pins are not internally connected to each other and must all be connected externally. Proper supply bypassing is necessary for best performance. See the Applications Information section."